# Altium footprint library Kame_FMU.PcbLib: 23 footprints (part 2 of 2)
Each footprint in its own frame and in the unit in brackets; x right, y up, seen from the top. Pads: shape width x height; smd on the part's side, far side on the other; paste and mask are expansions set on the pad; w line width, h text height; cw(c..) or ccw(c..) is an arc to the next point about the centre after c.
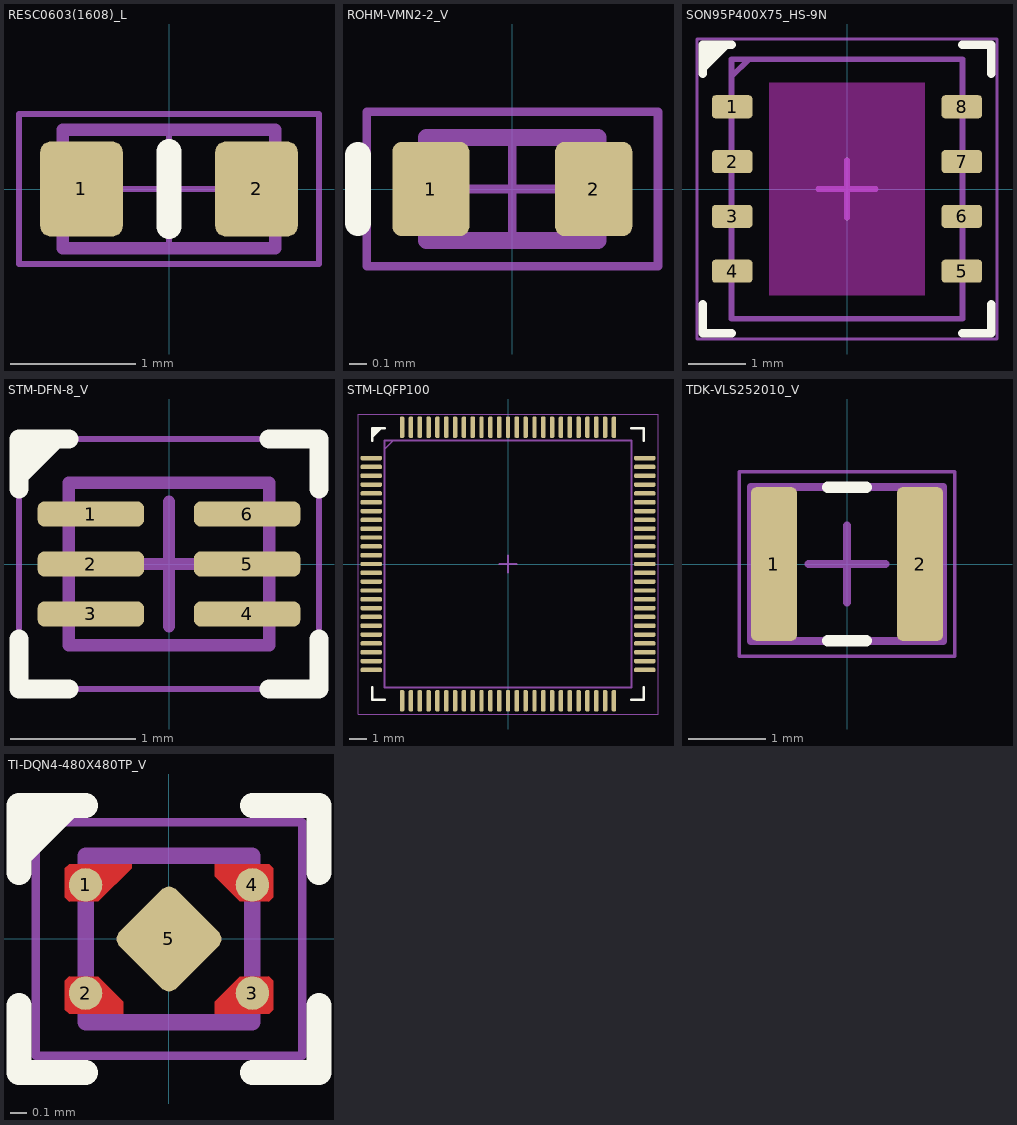
[diagram p1: the footprints below, top view; thin cyan lines are the x and y axes]

## RESC0603(1608)_L [mm]
pads (2):
  rrect25% 0.66x0.76 smd: 1(-0.7,0) 2(0.7,0)
Top Overlay:
  lines w0.2: 0,-0.3 0,0.3
Top Courtyard:
  lines w0.05: -0.475,0 0.475,0 ; 0,-0.475 0,0.475 ; -1.2,-0.6 -1.2,0.6 1.2,0.6 1.2,-0.6 -1.2,-0.6
Top Assembly:
  lines w0.1: -0.85,-0.475 -0.85,0.475 0.85,0.475 0.85,-0.475 -0.85,-0.475
Top Designator:
  text ".Designator" at -1.27,-0.127 h0.6
3D body "RES0603.step": height 0.45, standoff 0, extent -0.8,-0.4 0.8,0.4

## ROHM-VMN2-2_V [mm]
pads (2):
  rrect25% 0.45x0.55 smd: 1(-0.475,0) 2(0.475,0)
Top Overlay:
  lines w0.15: -0.9,-0.2 -0.9,0.2
Top Courtyard:
  lines w0.05: -0.275,0 0.275,0 ; 0,-0.275 0,0.275 ; -0.85,-0.45 -0.85,0.45 0.85,0.45 0.85,-0.45 -0.85,-0.45
Top Assembly:
  lines w0.1: -0.5,-0.3 -0.5,0.3 0.5,0.3 0.5,-0.3 -0.5,-0.3
Top Designator:
  text ".Designator" at -1.27,-0.127 h0.6
3D body "VMN2.STEP": height 0.37, standoff -0.01, extent -0.5,-0.3 0.5,0.3

## SON95P400X75_HS-9N [mm]
pads (8):
  rrect30% 0.7x0.4 smd: 1(-1.99,1.425) 2(-1.99,0.475) 3(-1.99,-0.475) 4(-1.99,-1.425) 5(1.99,-1.425) 6(1.99,-0.475) 7(1.99,0.475) 8(1.99,1.425)
Top Layer keep-out:
  rectangle: -1.35,-1.85 1.35,1.85
Top Overlay:
  region: -2.5,2.5 -2.5,2.1 -2.1,2.5
  lines w0.15: -2.5,-2 -2.5,-2.5 -2,-2.5 ; -2.5,2 -2.5,2.5 -2,2.5 ; -2.5,2.1 -2.1,2.5 ; 2,-2.5 2.5,-2.5 2.5,-2 ; 2,2.5 2.5,2.5 2.5,2
Top Courtyard:
  lines w0.05: -2.6,-2.6 -2.6,2.6 2.6,2.6 2.6,-2.6 -2.6,-2.6
  lines w0.1: -0.5,0 0.5,0 ; 0,-0.5 0,0.5
Top Assembly:
  lines w0.1: -2,1.9 -2,1.95 -1.7,2.25 ; -2,-2.25 -2,2.25 2,2.25 2,-2.25 -2,-2.25
Top Designator:
  text ".Designator" at -1.27,0.254 h0.6
3D body "DFN-8-EP-4x45-095pitch.STEP": height 0.77, standoff 0, extent -2,-2.25 2,2.25

## STM-DFN-8_V [mm]
pads (6):
  rrect50% 0.85x0.2 smd: 1(-0.625,0.4) 2(-0.625,0) 3(-0.625,-0.4) 4(0.625,-0.4) 5(0.625,0) 6(0.625,0.4)
Top Overlay:
  region: -1.2,1 -1.2,0.7 -0.9,1
  lines w0.15: -1.2,-0.6 -1.2,-1 -0.8,-1 ; -1.2,0.6 -1.2,1 -0.8,1 ; -1.2,0.7 -0.9,1 ; 0.8,-1 1.2,-1 1.2,-0.6 ; 0.8,1 1.2,1 1.2,0.6
Top Courtyard:
  lines w0.05: -1.2,-1 -1.2,1 1.2,1 1.2,-1 -1.2,-1
  lines w0.1: -0.5,0 0.5,0 ; 0,-0.5 0,0.5
Top Assembly:
  lines w0.1: -0.8,-0.65 -0.8,0.65 0.8,0.65 0.8,-0.65 -0.8,-0.65
Top Designator:
  text ".Designator" at -1.27,-0.127 h0.6
3D body "DFN-6-1.6x1.3.STEP": height 0.56, standoff -0.01, extent -0.81,-0.65 0.81,0.65

## STM-LQFP100 [mm]
pads (100):
  rrect50% 1.2x0.25 smd: 1(-7.75,6) 2(-7.75,5.5) 3(-7.75,5) 4(-7.75,4.5) 5(-7.75,4) 6(-7.75,3.5) 7(-7.75,3) 8(-7.75,2.5) 9(-7.75,2) 10(-7.75,1.5) 11(-7.75,1) 12(-7.75,0.5) 13(-7.75,0) 14(-7.75,-0.5) 15(-7.75,-1) 16(-7.75,-1.5) 17(-7.75,-2) 18(-7.75,-2.5) 19(-7.75,-3) 20(-7.75,-3.5) 21(-7.75,-4) 22(-7.75,-4.5) 23(-7.75,-5) 24(-7.75,-5.5) 25(-7.75,-6) 51(7.75,-6) 52(7.75,-5.5) 53(7.75,-5) 54(7.75,-4.5) 55(7.75,-4) 56(7.75,-3.5) 57(7.75,-3) 58(7.75,-2.5) 59(7.75,-2) 60(7.75,-1.5) 61(7.75,-1) 62(7.75,-0.5) 63(7.75,0) 64(7.75,0.5) 65(7.75,1) 66(7.75,1.5) 67(7.75,2) 68(7.75,2.5) 69(7.75,3) 70(7.75,3.5) 71(7.75,4) 72(7.75,4.5) 73(7.75,5) 74(7.75,5.5) 75(7.75,6)
  rrect50% 0.25x1.2 smd: 26(-6,-7.75) 27(-5.5,-7.75) 28(-5,-7.75) 29(-4.5,-7.75) 30(-4,-7.75) 31(-3.5,-7.75) 32(-3,-7.75) 33(-2.5,-7.75) 34(-2,-7.75) 35(-1.5,-7.75) 36(-1,-7.75) 37(-0.5,-7.75) 38(0,-7.75) 39(0.5,-7.75) 40(1,-7.75) 41(1.5,-7.75) 42(2,-7.75) 43(2.5,-7.75) 44(3,-7.75) 45(3.5,-7.75) 46(4,-7.75) 47(4.5,-7.75) 48(5,-7.75) 49(5.5,-7.75) 50(6,-7.75) 76(6,7.75) 77(5.5,7.75) 78(5,7.75) 79(4.5,7.75) 80(4,7.75) 81(3.5,7.75) 82(3,7.75) 83(2.5,7.75) 84(2,7.75) 85(1.5,7.75) 86(1,7.75) 87(0.5,7.75) 88(0,7.75) 89(-0.5,7.75) 90(-1,7.75) 91(-1.5,7.75) 92(-2,7.75) 93(-2.5,7.75) 94(-3,7.75) 95(-3.5,7.75) 96(-4,7.75) 97(-4.5,7.75) 98(-5,7.75) 99(-5.5,7.75) 100(-6,7.75)
Top Overlay:
  region: -7.7,7.7 -7.7,7.2 -7.2,7.7
  lines w0.15: -7.7,-7 -7.7,-7.7 -7,-7.7 ; -7.7,7 -7.7,7.7 -7,7.7 ; -7.7,7.2 -7.2,7.7 ; 7,-7.7 7.7,-7.7 7.7,-7 ; 7,7.7 7.7,7.7 7.7,7
Top Courtyard:
  lines w0.05: -8.5,-8.5 -8.5,8.5 8.5,8.5 8.5,-8.5 -8.5,-8.5
Top Assembly:
  lines w0.1: -7,6.5 -6.5,7 ; -7,-7 7,-7 7,7 -7,7 -7,-7
Top Component Center:
  lines w0.1: -0.5,0 0.5,0 ; 0,-0.5 0,0.5
Top Designator:
  text ".Designator" at 0,0 h1
3D body "SW3dPS-LQFP100.STEP": height 1.6, standoff 0, extent -8,-8 8,8

## TDK-VLS252010_V [mm]
pads (2):
  rrect25% 0.6x2 smd: 1(-0.95,0) 2(0.95,0)
Top Overlay:
  lines w0.15: -0.25,-1 0.25,-1 ; -0.25,1 0.25,1
Top Courtyard:
  lines w0.05: -1.4,-1.2 1.4,-1.2 1.4,1.2 -1.4,1.2 -1.4,-1.2
  lines w0.1: -0.5,0 0.5,0 ; 0,-0.5 0,0.5
Top Assembly:
  lines w0.1: -1.25,-1 -1.25,1 1.25,1 1.25,-1 -1.25,-1
Top Designator:
  text ".Designator" at -1.27,-0.127 h0.6
3D body "IND_252010.STEP": height 1, standoff -0.01, extent -1.25,-1 1.25,1

## TI-DQN4-480X480TP_V [mm]
pads (5):
  round 0.2 smd mask+0: 1(-0.5,0.325) 2(-0.5,-0.325) 3(0.5,-0.325) 4(0.5,0.325)
  rrect25% 0.48x0.48 smd rot 45 paste+0.005: 5(0,0)
Top Layer:
  region: -0.275,-0.45 -0.275,-0.375 -0.425,-0.225 -0.6,-0.225 -0.625,-0.25 -0.625,-0.425 -0.6,-0.45
  region: 0.275,-0.45 0.275,-0.375 0.425,-0.225 0.6,-0.225 0.625,-0.25 0.625,-0.425 0.6,-0.45
  region: 0.275,0.45 0.275,0.375 0.425,0.225 0.6,0.225 0.625,0.25 0.625,0.425 0.6,0.45
  region: -0.225,0.45 -0.225,0.425 -0.425,0.225 -0.6,0.225 -0.625,0.25 -0.625,0.425 -0.6,0.45
Top Overlay:
  region: -0.9,0.8 -0.9,0.5 -0.6,0.8
  lines w0.15: -0.9,-0.4 -0.9,-0.8 -0.5,-0.8 ; -0.9,0.4 -0.9,0.8 -0.5,0.8 ; -0.9,0.5 -0.6,0.8 ; 0.5,-0.8 0.9,-0.8 0.9,-0.4 ; 0.5,0.8 0.9,0.8 0.9,0.4
Top Courtyard:
  lines w0.05: -0.203,0 0.203,0 ; 0,-0.203 0,0.203 ; -0.8,-0.7 -0.8,0.7 0.8,0.7 0.8,-0.7 -0.8,-0.7
Top Assembly:
  lines w0.1: -0.5,-0.5 -0.5,0.5 0.5,0.5 0.5,-0.5 -0.5,-0.5
Top Designator:
  text ".Designator" at -1.27,-0.127 h0.6
3D body: height 0.45, standoff -0.01, extent -2,0.1 -2,0.1
3D body "TI_ DQN_(S-PX2SON-N4)_DQN0004A.STEP": height 0.35, standoff -0.01, extent -0.5,-0.5 0.5,0.5